# Altium footprint library CHOCO_KEYBOARD.PcbLib: 18 footprints (part 2 of 2)
Each footprint in its own frame and in the unit in brackets; x right, y up, seen from the top. Pads: shape width x height; smd on the part's side, far side on the other; paste and mask are expansions set on the pad; w line width, h text height; cw(c..) or ccw(c..) is an arc to the next point about the centre after c.
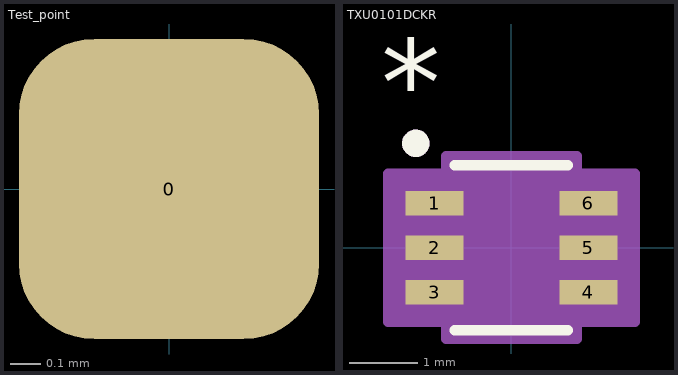
[diagram p1: the footprints below, top view; thin cyan lines are the x and y axes]

## Test_point [mm]
pads (1):
  rrect50% 1x1 smd: 0(0,0)

## TXU0101DCKR [mil]
pads (6):
  rect 33.5x14 smd paste+0 mask+0: 1(-44.25,25.59) 2(-44.25,0) 3(-44.25,-25.59) 4(44.25,-25.59) 5(44.25,0) 6(44.25,25.59)
Top Overlay:
  circle w7.87: c-55,60 r3.94
  lines w6: -32.5,-47.5 32.5,-47.5 ; -32.5,47.5 32.5,47.5
  text "*" at -75,70 h50
Mechanical 1:
  region: -37.5,-42.59 -71,-42.59 -71,42.59 -37.5,42.59 -37.5,52.5 37.5,52.5 37.5,42.59 71,42.59 71,-42.59 37.5,-42.59 37.5,-52.5 -37.5,-52.5
  lines w6: -71,-42.59 -37.5,-42.59 -37.5,-52.5 37.5,-52.5 37.5,-42.59 71,-42.59 71,42.59 37.5,42.59 37.5,52.5 -37.5,52.5 -37.5,42.59 -71,42.59 -71,-42.59
Mechanical 13:
  circle w7.87: c-55,60 r3.94
  lines w0: -12,42.5 ccw(c0,42.5) 12,42.5
  lines w1: -47,-31.59 -27.5,-31.59 -27.5,-19.59 -47,-19.59 -47,-31.59 ; -47,-6 -27.5,-6 -27.5,6 -47,6 -47,-6 ; -47,19.59 -27.5,19.59 -27.5,31.59 -47,31.59 -47,19.59 ; -27.5,-42.5 -27.5,42.5 27.5,42.5 27.5,-42.5 -27.5,-42.5 ; 27.5,-31.59 47,-31.59 47,-19.59 27.5,-19.59 27.5,-31.59 ; 27.5,-6 47,-6 47,6 27.5,6 27.5,-6 ; 27.5,19.59 47,19.59 47,31.59 27.5,31.59 27.5,19.59
  text "*" at -25,-10.5 h50
3D body "SC70-6_DCK_TEX.step": height 43.11, standoff 0, extent -47.01,-42.52 47.01,42.52